# EAGLE library part SAM3U4E (library untitled)
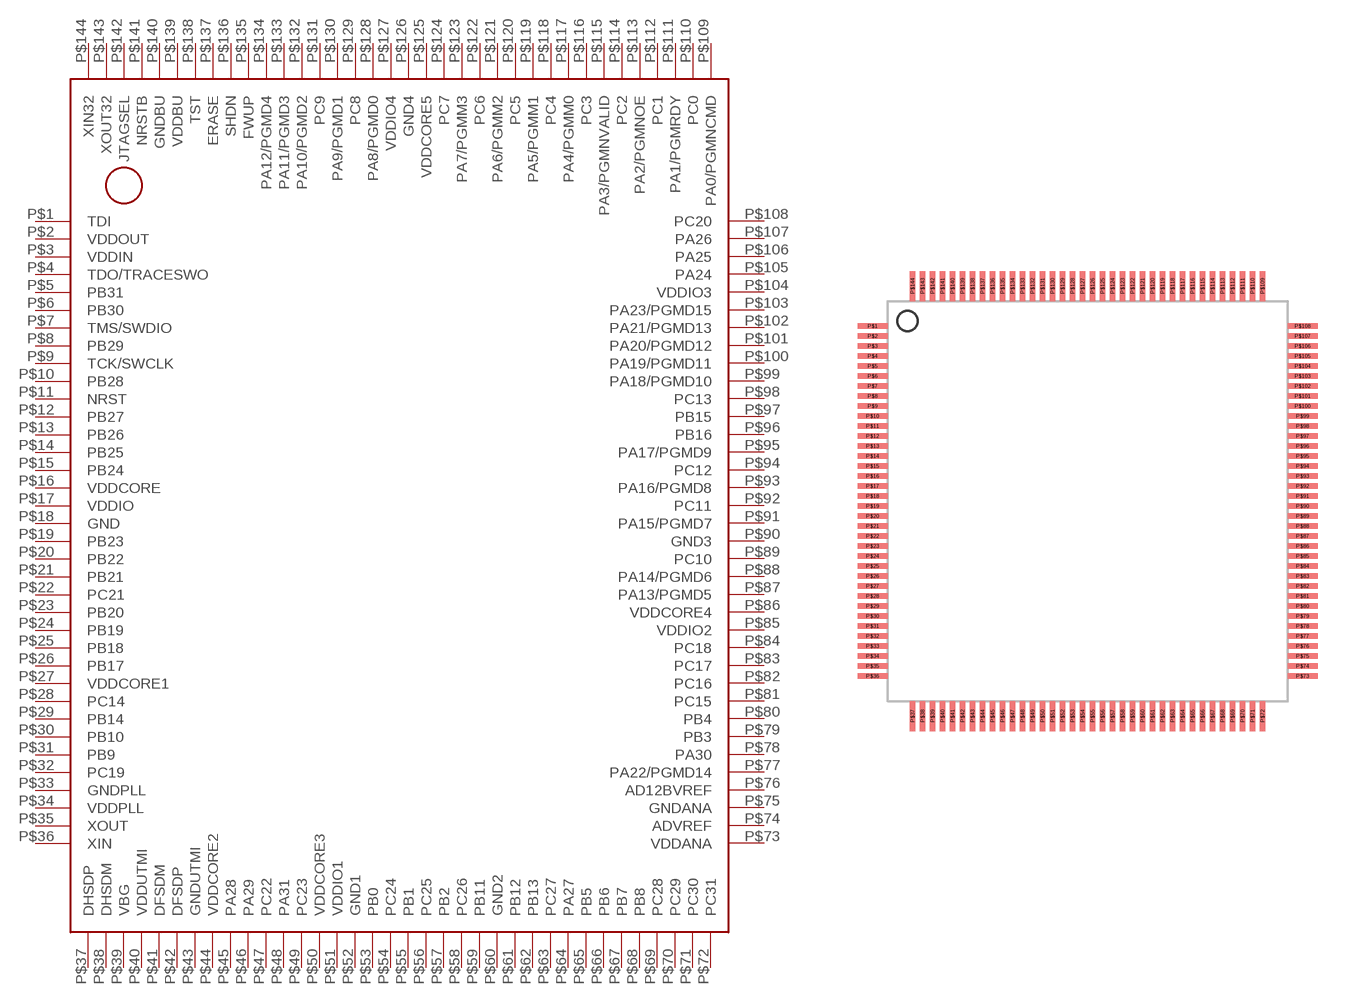
[diagram p2: symbol with the pads of LQFP144; footprint LQFP144]

Designator prefix -

## SAM3U4E  [LQFP144]
P$1  TDI
P$2  VDDOUT
P$3  VDDIN
P$4  TDO/TRACESWO
P$5  PB31
P$6  PB30
P$7  TMS/SWDIO
P$8  PB29
P$9  TCK/SWCLK
P$10  PB28
P$11  NRST
P$12  PB27
P$13  PB26
P$14  PB25
P$15  PB24
P$16  VDDCORE
P$17  VDDIO
P$18  GND
P$19  PB23
P$20  PB22
P$21  PB21
P$22  PC21
P$23  PB20
P$24  PB19
P$25  PB18
P$26  PB17
P$27  VDDCORE1
P$28  PC14
P$29  PB14
P$30  PB10
P$31  PB9
P$32  PC19
P$33  GNDPLL
P$34  VDDPLL
P$35  XOUT
P$36  XIN
P$37  DHSDP
P$38  DHSDM
P$39  VBG
P$40  VDDUTMI
P$41  DFSDM
P$42  DFSDP
P$43  GNDUTMI
P$44  VDDCORE2
P$45  PA28
P$46  PA29
P$47  PC22
P$48  PA31
P$49  PC23
P$50  VDDCORE3
P$51  VDDIO1
P$52  GND1
P$53  PB0
P$54  PC24
P$55  PB1
P$56  PC25
P$57  PB2
P$58  PC26
P$59  PB11
P$60  GND2
P$61  PB12
P$62  PB13
P$63  PC27
P$64  PA27
P$65  PB5
P$66  PB6
P$67  PB7
P$68  PB8
P$69  PC28
P$70  PC29
P$71  PC30
P$72  PC31
P$73  VDDANA
P$74  ADVREF
P$75  GNDANA
P$76  AD12BVREF
P$77  PA22/PGMD14
P$78  PA30
P$79  PB3
P$80  PB4
P$81  PC15
P$82  PC16
P$83  PC17
P$84  PC18
P$85  VDDIO2
P$86  VDDCORE4
P$87  PA13/PGMD5
P$88  PA14/PGMD6
P$89  PC10
P$90  GND3
P$91  PA15/PGMD7
P$92  PC11
P$93  PA16/PGMD8
P$94  PC12
P$95  PA17/PGMD9
P$96  PB16
P$97  PB15
P$98  PC13
P$99  PA18/PGMD10
P$100  PA19/PGMD11
P$101  PA20/PGMD12
P$102  PA21/PGMD13
P$103  PA23/PGMD15
P$104  VDDIO3
P$105  PA24
P$106  PA25
P$107  PA26
P$108  PC20
P$109  PA0/PGMNCMD
P$110  PC0
P$111  PA1/PGMRDY
P$112  PC1
P$113  PA2/PGMNOE
P$114  PC2
P$115  PA3/PGMNVALID
P$116  PC3
P$117  PA4/PGMM0
P$118  PC4
P$119  PA5/PGMM1
P$120  PC5
P$121  PA6/PGMM2
P$122  PC6
P$123  PA7/PGMM3
P$124  PC7
P$125  VDDCORE5
P$126  GND4
P$127  VDDIO4
P$128  PA8/PGMD0
P$129  PC8
P$130  PA9/PGMD1
P$131  PC9
P$132  PA10/PGMD2
P$133  PA11/PGMD3
P$134  PA12/PGMD4
P$135  FWUP
P$136  SHDN
P$137  ERASE
P$138  TST
P$139  VDDBU
P$140  GNDBU
P$141  NRSTB
P$142  JTAGSEL
P$143  XOUT32
P$144  XIN32

## Footprint LQFP144 (pad centres in mm)
smd 1.5 x 0.29: P$1 -10.75,8.75; P$2 -10.75,8.25; P$3 -10.75,7.75; P$4 -10.75,7.25; P$5 -10.75,6.75; P$6 -10.75,6.25; P$7 -10.75,5.75; P$8 -10.75,5.25; P$9 -10.75,4.75; P$10 -10.75,4.25; P$11 -10.75,3.75; P$12 -10.75,3.25; P$13 -10.75,2.75; P$14 -10.75,2.25; P$15 -10.75,1.75; P$16 -10.75,1.25; P$17 -10.75,0.75; P$18 -10.75,0.25; P$19 -10.75,-0.25; P$20 -10.75,-0.75; P$21 -10.75,-1.25; P$22 -10.75,-1.75; P$23 -10.75,-2.25; P$24 -10.75,-2.75; P$25 -10.75,-3.25; P$26 -10.75,-3.75; P$27 -10.75,-4.25; P$28 -10.75,-4.75; P$29 -10.75,-5.25; P$30 -10.75,-5.75; P$31 -10.75,-6.25; P$32 -10.75,-6.75; P$33 -10.75,-7.25; P$34 -10.75,-7.75; P$35 -10.75,-8.25; P$36 -10.75,-8.75; P$73 10.75,-8.75; P$74 10.75,-8.25; P$75 10.75,-7.75; P$76 10.75,-7.25; P$77 10.75,-6.75; P$78 10.75,-6.25; P$79 10.75,-5.75; P$80 10.75,-5.25; P$81 10.75,-4.75; P$82 10.75,-4.25; P$83 10.75,-3.75; P$84 10.75,-3.25; P$85 10.75,-2.75; P$86 10.75,-2.25; P$87 10.75,-1.75; P$88 10.75,-1.25; P$89 10.75,-0.75; P$90 10.75,-0.25; P$91 10.75,0.25; P$92 10.75,0.75; P$93 10.75,1.25; P$94 10.75,1.75; P$95 10.75,2.25; P$96 10.75,2.75; P$97 10.75,3.25; P$98 10.75,3.75; P$99 10.75,4.25; P$100 10.75,4.75; P$101 10.75,5.25; P$102 10.75,5.75; P$103 10.75,6.25; P$104 10.75,6.75; P$105 10.75,7.25; P$106 10.75,7.75; P$107 10.75,8.25; P$108 10.75,8.75
smd 0.29 x 1.5: P$37 -8.75,-10.75; P$38 -8.25,-10.75; P$39 -7.75,-10.75; P$40 -7.25,-10.75; P$41 -6.75,-10.75; P$42 -6.25,-10.75; P$43 -5.75,-10.75; P$44 -5.25,-10.75; P$45 -4.75,-10.75; P$46 -4.25,-10.75; P$47 -3.75,-10.75; P$48 -3.25,-10.75; P$49 -2.75,-10.75; P$50 -2.25,-10.75; P$51 -1.75,-10.75; P$52 -1.25,-10.75; P$53 -0.75,-10.75; P$54 -0.25,-10.75; P$55 0.25,-10.75; P$56 0.75,-10.75; P$57 1.25,-10.75; P$58 1.75,-10.75; P$59 2.25,-10.75; P$60 2.75,-10.75; P$61 3.25,-10.75; P$62 3.75,-10.75; P$63 4.25,-10.75; P$64 4.75,-10.75; P$65 5.25,-10.75; P$66 5.75,-10.75; P$67 6.25,-10.75; P$68 6.75,-10.75; P$69 7.25,-10.75; P$70 7.75,-10.75; P$71 8.25,-10.75; P$72 8.75,-10.75; P$109 8.75,10.75; P$110 8.25,10.75; P$111 7.75,10.75; P$112 7.25,10.75; P$113 6.75,10.75; P$114 6.25,10.75; P$115 5.75,10.75; P$116 5.25,10.75; P$117 4.75,10.75; P$118 4.25,10.75; P$119 3.75,10.75; P$120 3.25,10.75; P$121 2.75,10.75; P$122 2.25,10.75; P$123 1.75,10.75; P$124 1.25,10.75; P$125 0.75,10.75; P$126 0.25,10.75; P$127 -0.25,10.75; P$128 -0.75,10.75; P$129 -1.25,10.75; P$130 -1.75,10.75; P$131 -2.25,10.75; P$132 -2.75,10.75; P$133 -3.25,10.75; P$134 -3.75,10.75; P$135 -4.25,10.75; P$136 -4.75,10.75; P$137 -5.25,10.75; P$138 -5.75,10.75; P$139 -6.25,10.75; P$140 -6.75,10.75; P$141 -7.25,10.75; P$142 -7.75,10.75; P$143 -8.25,10.75; P$144 -8.75,10.75